# EAGLE library part TPS54294 (library CougsInSpace)
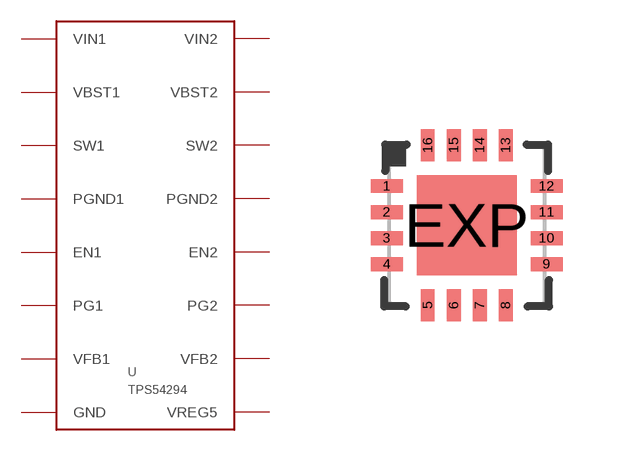
[diagram p32: symbol with the pads of QFN16-4X4; footprint QFN16-4X4]

Designator prefix -

## TPS54294  [QFN16-4X4]
1  VBST2
2  VIN2  pwr
3  VIN1  pwr
4  VBST1
5  SW1
6  PGND1  pwr
7  EN1  in
8  PG1  out
9  VFB1
10  GND  pwr
11  VREG5
12  VFB2
13  PG2  out
14  EN2  in
15  PGND2  pwr
16  SW2
EXP  GND  pwr

## Footprint QFN16-4X4 (pad centres in mm)
16-Lead Plastic Quad Flat, No Lead Package (ML) - 4x4x0.9mm Body [QFN] Source: http://ww1.microchip.com/downloads/en/DeviceDoc/41203E.pdf
smd 0.8 x 0.35: 1 -2,0.975; 2 -2,0.325; 3 -2,-0.325; 4 -2,-0.975; 9 2,-0.975; 10 2,-0.325; 11 2,0.325; 12 2,0.975
smd 0.35 x 0.8: 5 -0.975,-2; 6 -0.325,-2; 7 0.325,-2; 8 0.975,-2; 13 0.975,2; 14 0.325,2; 15 -0.325,2; 16 -0.975,2
smd 2.5 x 2.5: EXP 0,0